# Altium footprint library LV1.PcbLib: 45 footprints (part 3 of 3)
Each footprint in its own frame and in the unit in brackets; x right, y up, seen from the top. Pads: shape width x height; smd on the part's side, far side on the other; paste and mask are expansions set on the pad; w line width, h text height; cw(c..) or ccw(c..) is an arc to the next point about the centre after c.
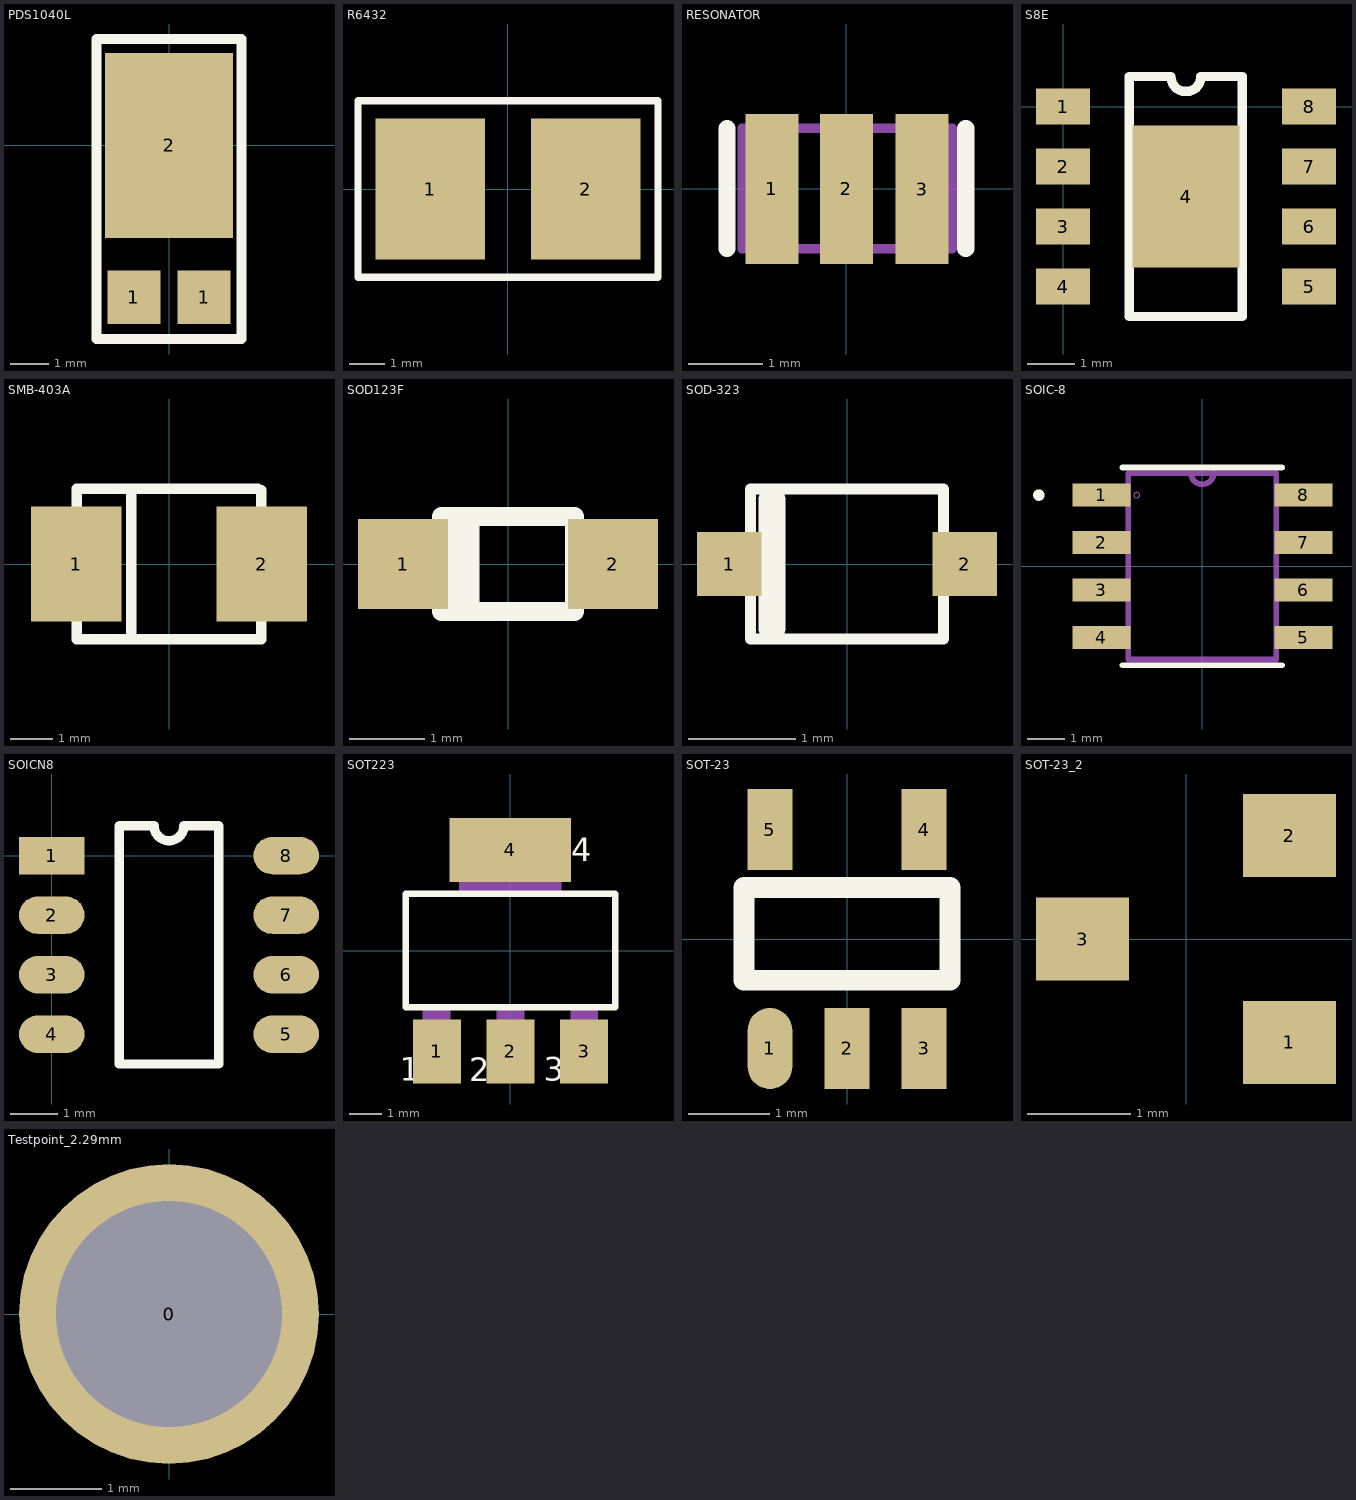
[diagram p2: the footprints below, top view; thin cyan lines are the x and y axes]

## PDS1040L [mm]
height 7.12
pads (3):
  rect 1.39x1.4 smd: 1(-0.92,-3.982) 1(0.92,-3.982)
  rect 3.36x4.86 smd: 2(0,0)
Top Overlay:
  lines w0.254: -1.905,-5.08 1.905,-5.08 1.905,2.794 -1.905,2.794 -1.905,-5.08
3D body: height 0.1, standoff 0, extent -1.397,0.762 1.397,2.286
3D body: height 0.1, standoff 0, extent -1.397,-4.064 -0.381,-2.032
3D body: height 0.1, standoff 0, extent 0.381,-4.064 1.397,-2.032
3D body: height 1, standoff 0, extent -1.524,-3.429 1.524,1.524

## R6432 [mm]
height 7.12
pads (2):
  rect 3.1x4 smd: 1(-2.2,0) 2(2.2,0)
Top Overlay:
  lines w0.2: -4.25,-2.5 -4.25,0 -4.25,2.5 4.25,2.5 4.25,-2.5 -4.25,-2.5

## RESONATOR [mil]
height 338.58
pads (3):
  rect 28x79 smd: 1(-39.37,0) 2(0,0) 3(40,0)
Top Overlay:
  lines w9: -62.99,-31.5 -62.99,32 ; 63,-31.5 63,32
Mechanical 16:
  lines w5: -55.12,-31.5 -55.12,32 56,32 56,-31.5 -55.12,-31.5

## S8E [mil]
height 338.58
pads (9):
  rect 45x30 smd: 1(0,0) 2(0,-50) 3(0,-100) 4(0,-150) 5(205,-150) 6(205,-100) 7(205,-50) 8(205,0)
  rect 89x118 smd: 4(102.5,-75)
Top Overlay:
  lines w7.87: 55.37,-175 149.47,-175 149.47,25 114.92,25 cw(c102.42,25) 89.92,25 55.37,25 55.37,-175

## SMB-403A [mil]
pads (2):
  rect 85x107.99 smd: 1(-87.01,0) 2(87.01,0)
Top Overlay:
  lines w10: -86.61,-70.87 -86.61,69.29 ; -86.61,70.87 83.46,70.87 ; -83.46,-70.87 86.61,-70.87 86.61,69.29 ; -35.43,-70.87 -35.43,70.87
3D body: height 78.74, standoff 0, extent -82.68,-74.8 90.55,66.93

## SOD123F [mm]
height 7.12
pads (2):
  rect 1.2x1.2 smd: 1(-1.4,0) 2(1.4,0)
Top Overlay:
  rectangle: -1.016,-0.635 -0.381,0.635
  lines w0.254: -0.889,-0.635 0.889,-0.635 0.889,0.635 -0.889,0.635

## SOD-323 [mm]
pads (2):
  rect 0.6x0.6 smd: 1(-1.1,0) 2(1.1,0)
Top Overlay:
  lines w0.1: -0.9,-0.7 0.9,-0.7 0.9,0.7 -0.9,0.7 -0.9,-0.7
  lines w0.254: -0.7,-0.6 -0.7,0.6

## SOIC-8 [mil]
pads (8):
  rect 61x24 smd paste-1000 mask-1000: 1(-106.3,75) 2(-106.3,25) 3(-106.3,-25) 4(-106.3,-75) 5(106.3,-75) 6(106.3,-25) 7(106.3,25) 8(106.3,75)
Top Overlay:
  lines w6: -84,-104 84,-104 ; -84,104 84,104 ; -175,75 ccw(c-172,75) -169,75 ccw(c-172,75) -175,75
Top Paste:
  region: -136.8,63 -75.8,63 -75.8,87 -136.8,87
  region: -136.8,13 -75.8,13 -75.8,37 -136.8,37
  region: -136.8,-37 -75.8,-37 -75.8,-13 -136.8,-13
  region: -136.8,-87 -75.8,-87 -75.8,-63 -136.8,-63
  region: 75.8,-87 136.8,-87 136.8,-63 75.8,-63
  region: 75.8,-37 136.8,-37 136.8,-13 75.8,-13
  region: 75.8,13 136.8,13 136.8,37 75.8,37
  region: 75.8,63 136.8,63 136.8,87 75.8,87
Top Solder:
  region: -140.74,59.06 -71.86,59.06 -71.86,90.94 -140.74,90.94
  region: -140.74,9.06 -71.86,9.06 -71.86,40.94 -140.74,40.94
  region: -140.74,-40.94 -71.86,-40.94 -71.86,-9.06 -140.74,-9.06
  region: -140.74,-90.94 -71.86,-90.94 -71.86,-59.06 -140.74,-59.06
  region: 71.86,-90.94 140.74,-90.94 140.74,-59.06 71.86,-59.06
  region: 71.86,-40.94 140.74,-40.94 140.74,-9.06 71.86,-9.06
  region: 71.86,9.06 140.74,9.06 140.74,40.94 71.86,40.94
  region: 71.86,59.06 140.74,59.06 140.74,90.94 71.86,90.94
Mechanical 1:
  lines w0: -72,75 ccw(c-69,75) -66,75 ccw(c-69,75) -72,75
  lines w6: -12,98.08 ccw(c0,98.5) 12,98.92 ; -78,-98 78,-98 78,98 -12,98 -78,98 -78,-98

## SOICN8 [mm]
pads (8):
  rect 1.4x0.8 smd: 1(0,0)
  oval 1.4x0.8 smd: 2(0,-1.27) 3(0,-2.54) 4(0,-3.81) 5(5,-3.81) 6(5,-2.54) 7(5,-1.27) 8(5,0)
Top Overlay:
  lines w0.2: 1.435,-4.445 3.565,-4.445 3.565,0.635 2.818,0.635 cw(c2.5,0.635) 2.183,0.635 1.435,0.635 1.435,-4.445
3D body: height 0.5, standoff 0, extent 4.318,-0.254 5.461,0.254
3D body: height 0.5, standoff 0, extent 4.318,-1.524 5.461,-1.016
3D body: height 0.5, standoff 0, extent 4.318,-2.794 5.461,-2.286
3D body: height 0.5, standoff 0, extent 4.318,-4.064 5.461,-3.556
3D body: height 0.5, standoff 0, extent -0.381,-4.064 0.762,-3.556
3D body: height 0.5, standoff 0, extent -0.381,-2.794 0.762,-2.286
3D body: height 0.5, standoff 0, extent -0.381,-1.524 0.762,-1.016
3D body: height 0.5, standoff 0, extent -0.381,-0.254 0.762,0.254
3D body: height 1, standoff 0, extent 0.762,-4.699 4.318,0.889

## SOT223 [mm]
height 8.6
pads (4):
  rect 1.5x2 smd: 1(-2.3,-3.15) 2(0,-3.15) 3(2.3,-3.15)
  rect 3.8x2 smd: 4(0,3.15)
Top Overlay:
  lines w0.203: -3.277,-1.778 -3.277,1.778 3.277,1.778 3.277,-1.778 -3.277,-1.778
  text "2" at -1.291,-4.327 h1.26
  text "1" at -3.453,-4.318 h1.26
  text "4" at 1.905,2.54 h1.26
  text "3" at 1.041,-4.318 h1.26
Mechanical 16:
  rectangle: 1.88,-3.658 2.743,-1.803
  rectangle: -2.743,-3.658 -1.88,-1.803
  rectangle: -0.432,-3.658 0.432,-1.803
  rectangle: -1.6,1.803 1.6,3.658
  rectangle: 1.88,-3.658 2.743,-1.803
  rectangle: -2.743,-3.658 -1.88,-1.803
  rectangle: -0.432,-3.658 0.432,-1.803
  rectangle: -1.6,1.803 1.6,3.658
3D body: height 0.1, standoff 0, extent -1.9,2.1 1.9,4.2
3D body: height 0.1, standoff 0, extent -3.1,-4.2 -1.5,-2.1
3D body: height 0.1, standoff 0, extent -0.8,-4.2 0.8,-2.1
3D body: height 0.1, standoff 0, extent 1.5,-4.2 3.1,-2.1
3D body: height 1, standoff 0, extent -3.3,-2.1 3.3,2.2

## SOT-23 [mm]
height 8.6
pads (5):
  oval 0.55x1 smd: 1(-0.95,-1.35)
  rect 0.55x1 smd: 2(0,-1.35) 3(0.95,-1.35) 4(0.95,1.35) 5(-0.95,1.35)
Top Overlay:
  lines w0.254: -1.27,-0.508 -1.27,0.635 1.27,0.635 1.27,-0.508 -1.27,-0.508

## SOT-23_2 [mm]
pads (3):
  rect 0.9x0.8 smd: 1(1,-1) 2(1,1) 3(-1,0)
3D body: height 0.5, standoff 0, extent -0.889,-1.016 1.016,1.143

## Testpoint_2.29mm [mm]
pads (1):
  round 3.3 hole 2.49: 0(0,0)